# Altium schematic symbol library Schematics.SchLib: 2 symbols
Pins are listed as number, name and electrical type; pins without a type are passive.

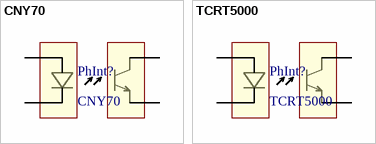
[diagram p0: symbols CNY70 to TCRT5000]

## CNY70
designator PhInt?
V_led_rev_max: 5 V; I_led_fwd_max: 50 mA; P_led_max: 100 mW; V_ce_max: 32 V; V_ec_max: 7 V; I_ce_max: 50 mA; P_ce_max: 100 mW
footprint CNY70
pins: LED_A, LED_C, TRNS_C, TRNS_E

## TCRT5000
designator PhInt?
V_led_rev_max: 5 V; I_led_fwd_max: 60 mA; P_led_max: 100 mW; V_ce_max: 70 V; I_ce_max: 100 mA; V_ec_max: 5 V; P_ce_max: 100 mW
footprint TCRT5000 (TCRT5000 photointerrupter)
pins: LED_A, LED_C, TRNS_C, TRNS_E